# Altium footprint library USB conn type B micro Plug.PcbLib: 1 footprints
Each footprint in its own frame and in the unit in brackets; x right, y up, seen from the top. Pads: shape width x height; smd on the part's side, far side on the other; paste and mask are expansions set on the pad; w line width, h text height; cw(c..) or ccw(c..) is an arc to the next point about the centre after c.
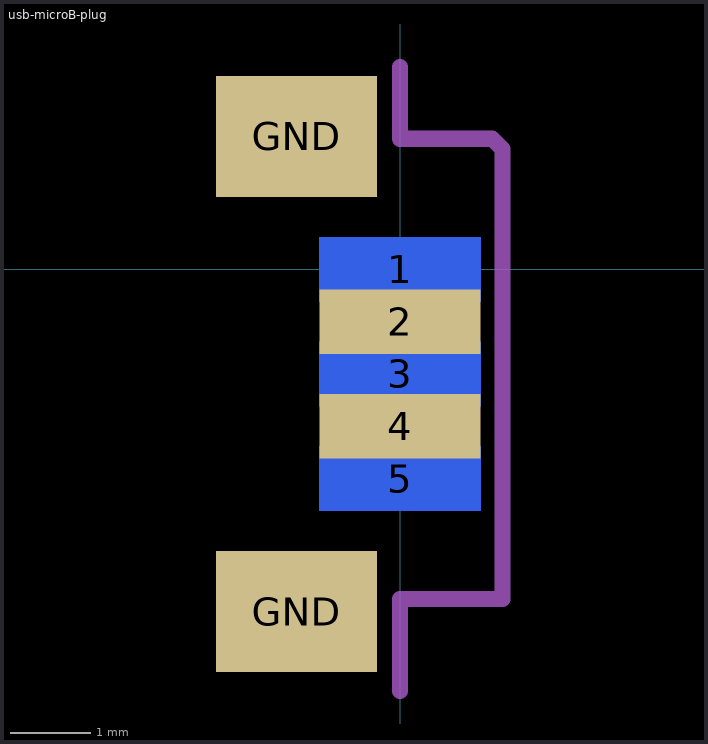
[diagram p0: the footprint, top view; thin cyan lines are the x and y axes]

## usb-microB-plug [mm]
height 4.2
pads (7):
  rect 2x0.8 smd far side mask+0.08: 1(0,0) 3(0,-1.3) 5(0,-2.6)
  rect 2x0.8 smd mask+0.08: 2(0,-0.65) 4(0,-1.95)
  rect 2x1.5 smd mask+0.08: GND(-1.284,-4.25) GND(-1.284,1.65)
Bottom Overlay:
  lines w0.2: -2.413,0 -2.032,0
Mechanical 1:
  lines w0.2: 0,-5.237 0,-4.094 1.27,-4.094 1.27,1.494 1.143,1.621 0,1.621 0,2.51